# Altium footprint library PowerPAK SO-8 Single.PcbLib: 1 footprints
Each footprint in its own frame and in the unit in brackets; x right, y up, seen from the top. Pads: shape width x height; smd on the part's side, far side on the other; paste and mask are expansions set on the pad; w line width, h text height; cw(c..) or ccw(c..) is an arc to the next point about the centre after c.
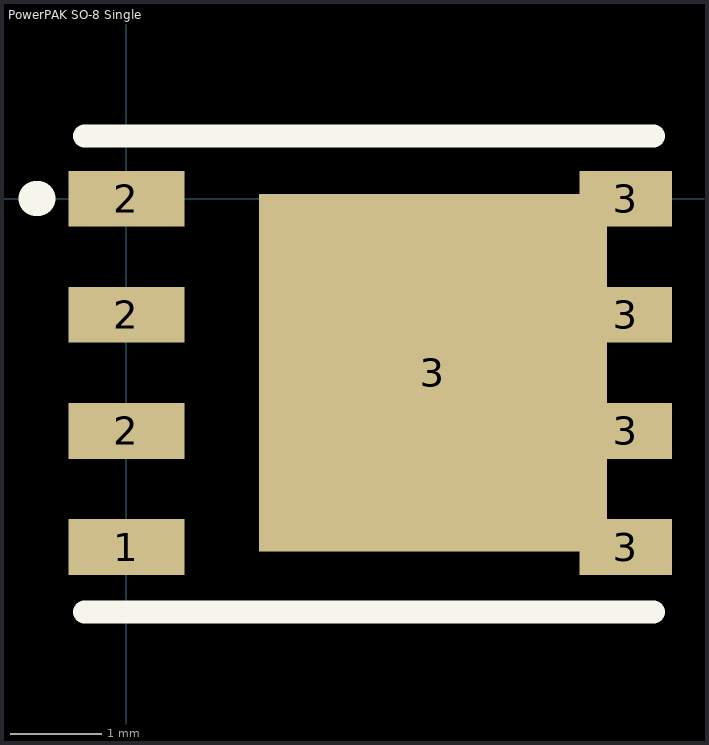
[diagram p0: the footprint, top view; thin cyan lines are the x and y axes]

## PowerPAK SO-8 Single [mil]
pads (9):
  rect 50x24 smd: 1(0,-150) 2(0,-100) 2(0,-50) 2(0,0)
  rect 150x154 smd: 3(132,-75)
  rect 40x24 smd: 3(215,-150) 3(215,-100) 3(215,-50) 3(215,0)
Top Overlay:
  lines w10: -18,-178 227,-178 ; -18,27 227,27
  lines w15: -39,0 -38,0
Mechanical 4:
  text ".065" at -0.44,0.48 h1
  text ".062" at 0,0 h1
3D body: height 42.13, standoff 0, extent -18,-178 227,27